# EAGLE library part LM27675M5_CHARGEPUMP (library jason_eagle6)
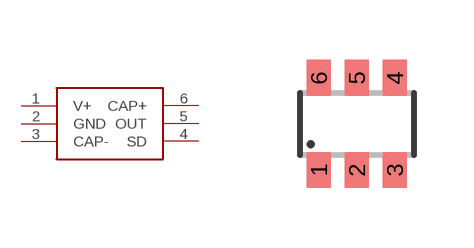
[diagram p2: symbol with the pads of SOT23-6; footprint SOT23-6]

Designator prefix -

## LM27675M5_CHARGEPUMP  [SOT23-6]
1  V+
2  GND
3  CAP-
4  SD
5  OUT
6  CAP+

## Footprint SOT23-6 (pad centres in mm)
Small Outline Transistor 6 lead
smd 0.6 x 0.9: 1 -0.95,-1.15; 2 0,-1.15; 3 0.95,-1.15; 4 0.95,1.15; 5 0,1.15; 6 -0.95,1.15